# Altium footprint library MyLib.PcbLib: 11 footprints
Each footprint in its own frame and in the unit in brackets; x right, y up, seen from the top. Pads: shape width x height; smd on the part's side, far side on the other; paste and mask are expansions set on the pad; w line width, h text height; cw(c..) or ccw(c..) is an arc to the next point about the centre after c.
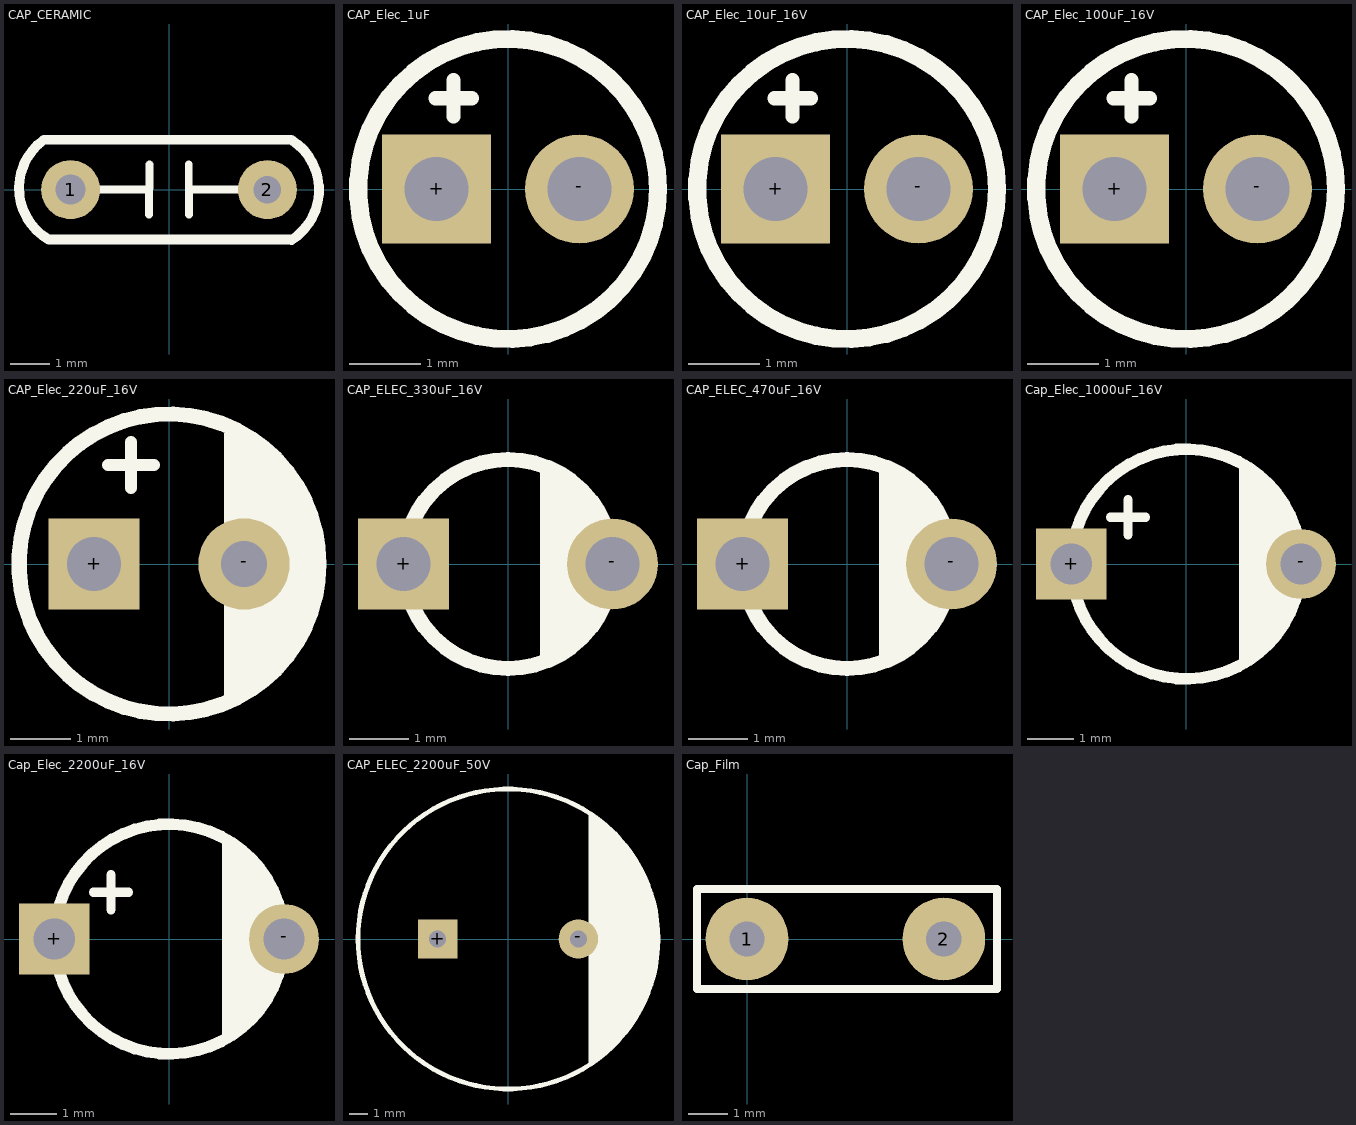
[diagram p0: the footprints below, top view; thin cyan lines are the x and y axes]

## CAP_CERAMIC [mm] "General Ceramic Capacitor"
pads (2):
  round 1.5 hole 0.762: 1(-2.5,0)
  round 1.5 hole 0.7: 2(2.5,0)
Top Overlay:
  lines w0.2: -2.5,0 -0.508,0 ; -0.508,-0.635 -0.5,0.635 ; 0.5,0.635 0.508,-0.635 ; 0.508,0 2.5,0
  lines w0.25: 3.111,-1.279 ccw(c2.303,-0.006) 3.105,1.27 -3.175,1.27 ccw(c-2.303,0.04) -3.048,-1.27 3.111,-1.27
3D body "User Library-Cer-Cap2_5 (5x1_5).STEP": height 6, standoff -2, extent -2.919,-1.699 2.919,1.7

## CAP_Elec_1uF [mm] "1uF"
pads (2):
  rect 1.524x1.524 hole 0.9: +(-1,0)
  round 1.524 hole 0.9: -(1,0)
Top Overlay:
  circle w0.254: c0,0 r2.1
  lines w0.2: -1.016,1.27 -0.508,1.27 ; -0.762,1.016 -0.762,1.524
3D body "User Library-5x11x2x0_5.STEP": height 19.11, standoff -12.11, extent -2.5,-2.5 2.49,2.5

## CAP_Elec_10uF_16V [mm] "10uF"
pads (2):
  rect 1.524x1.524 hole 0.9: +(-1,0)
  round 1.524 hole 0.9: -(1,0)
Top Overlay:
  circle w0.254: c0,0 r2.1
  lines w0.2: -1.016,1.27 -0.508,1.27 ; -0.762,1.016 -0.762,1.524
3D body "User Library-5x11x2x0_5.STEP": height 19.11, standoff -12.11, extent -2.5,-2.5 2.49,2.5

## CAP_Elec_100uF_16V [mm] "100uF"
pads (2):
  rect 1.524x1.524 hole 0.9: +(-1,0)
  round 1.524 hole 0.9: -(1,0)
Top Overlay:
  circle w0.254: c0,0 r2.1
  lines w0.2: -1.016,1.27 -0.508,1.27 ; -0.762,1.016 -0.762,1.524
3D body "User Library-5x11x2x0_5.STEP": height 19.11, standoff -12.11, extent -2.5,-2.5 2.49,2.5

## CAP_Elec_220uF_16V [mil] "220uF"
pads (2):
  rect 60x60 hole 35.43: +(-49.21,0)
  round 60 hole 30: -(49.21,0)
Top Overlay:
  circle w10: c0,0 r98.43
  lines w7.87: -40,65 -10,65 ; -25,50 -25,80 ; 40,-90 40,85 ; 45,-85 45,85 ; 50,-80 50,85 ; 55,-75 55,80 ; 60,-70 60,75 ; 65,-70 65,70 ; 70,-65 70,65 ; 75,-65 75,65 ; 80,-50 80,55 ; 85,-45 85,40 ; 90,-35 90,35
3D body "User Library-Cap electro 6_3x11x2_5mm.STEP": height 493.13, standoff -79.3, extent -125,-125 125.02,125.02

## CAP_ELEC_330uF_16V [mm] "330uF"
pads (2):
  rect 1.524x1.524 hole 0.9: +(-1.75,0)
  round 1.524 hole 0.9: -(1.75,0)
Top Overlay:
  circle w0.254: c0,0 r1.75
  lines w0.2: 0.635,-1.651 0.635,1.524 ; 0.762,-1.524 0.762,1.524 ; 0.889,-1.524 0.889,1.397 ; 1.016,-1.397 1.016,1.397 ; 1.143,-1.27 1.143,1.27 ; 1.27,-1.143 1.27,1.016 ; 1.397,-1.016 1.397,1.016 ; 1.524,-0.762 1.524,0.508
3D body "User Library-Cap electro 8x11_5x3_5mm.STEP": height 12.03, standoff -3.48, extent -4.025,-4.025 4.025,4.025

## CAP_ELEC_470uF_16V [mm] "470uF"
pads (2):
  rect 1.524x1.524 hole 0.9: +(-1.75,0)
  round 1.524 hole 0.9: -(1.75,0)
Top Overlay:
  circle w0.254: c0,0 r1.75
  lines w0.2: 0.635,-1.651 0.635,1.524 ; 0.762,-1.524 0.762,1.524 ; 0.889,-1.524 0.889,1.397 ; 1.016,-1.397 1.016,1.397 ; 1.143,-1.27 1.143,1.27 ; 1.27,-1.143 1.27,1.016 ; 1.397,-1.016 1.397,1.016 ; 1.524,-0.762 1.524,0.508
3D body "User Library-Cap electro 8x11_5x3_5mm.STEP": height 12.03, standoff -3.48, extent -4.025,-4.025 4.025,4.025

## Cap_Elec_1000uF_16V [mm] "1000uf"
pads (2):
  rect 1.54x1.54 hole 0.9: +(-2.5,0)
  round 1.524 hole 0.9: -(2.5,0)
Top Overlay:
  circle w0.254: c0,0 r2.5
  lines w0.2: -1.651,1.016 -0.889,1.016 ; -1.27,0.635 -1.27,1.397 ; 1.397,-2.032 1.397,2.032
  lines w0.25: 1.27,-2.15 1.27,2.15
  lines w0.3: 1.524,-1.905 1.524,1.905
  lines w0.45: 1.651,-1.651 1.651,1.524 ; 1.905,-1.397 1.905,1.27 ; 2.159,-0.889 2.159,0.889
3D body "User Library-CE_R200_D200_H460.STEP": height 14.7, standoff -1.9, extent -2.79,-2.538 2.79,2.538

## Cap_Elec_2200uF_16V [mm] "220uF"
pads (2):
  rect 1.54x1.54 hole 0.9: +(-2.5,0)
  round 1.524 hole 0.9: -(2.5,0)
Top Overlay:
  circle w0.254: c0,0 r2.5
  lines w0.2: -1.651,1.016 -0.889,1.016 ; -1.27,0.635 -1.27,1.397 ; 1.397,-2.032 1.397,2.032
  lines w0.25: 1.27,-2.15 1.27,2.15
  lines w0.3: 1.524,-1.905 1.524,1.905
  lines w0.45: 1.651,-1.651 1.651,1.524 ; 1.905,-1.397 1.905,1.27 ; 2.159,-0.889 2.159,0.889
3D body "User Library-CE_R200_D200_H460.STEP": height 14.7, standoff -1.9, extent -2.79,-2.538 2.79,2.538

## CAP_ELEC_2200uF_50V [mm] "2200uF-50V"
pads (2):
  rect 2.1x2.1 hole 0.9: +(-3.75,0)
  round 2.1 hole 0.9: -(3.75,0)
Top Overlay:
  circle w0.254: c0,0 r8
  lines w0.3: 4.445,-6.604 4.445,6.604 ; 4.699,-6.35 4.699,6.35 ; 4.953,-6.223 4.953,6.096 ; 5.207,-5.969 5.207,5.969 ; 5.461,-5.715 5.461,5.715 ; 5.715,-5.461 5.715,5.588 ; 5.969,-5.207 5.969,5.207 ; 6.223,-4.953 6.223,4.953 ; 6.477,-4.572 6.477,4.572 ; 6.731,-4.191 6.731,4.191 ; 6.985,-3.81 6.985,3.81 ; 7.239,-3.302 7.239,3.302 ; 7.493,-2.667 7.493,2.667 ; 7.747,-1.905 7.747,1.778
3D body "User Library-CapAluRadial_D160H315.STEP": height 34.5, standoff -2, extent -8.25,-8.249 8.25,8.25

## Cap_Film [mm] "100nF"
pads (2):
  round 2.1 hole 0.9: 1(0,0) 2(5,0)
Top Overlay:
  lines w0.2: -1.27,-1.27 -1.27,1.27 6.35,1.27 6.35,-1.27 -1.27,-1.27
3D body "User Library-filmcap1.STEP": height 8.1, standoff -3.08, extent -1,-2.25 6,2.25